# Altium footprint library PcbLib1.PcbLib: 14 footprints
Each footprint in its own frame and in the unit in brackets; x right, y up, seen from the top. Pads: shape width x height; smd on the part's side, far side on the other; paste and mask are expansions set on the pad; w line width, h text height; cw(c..) or ccw(c..) is an arc to the next point about the centre after c.
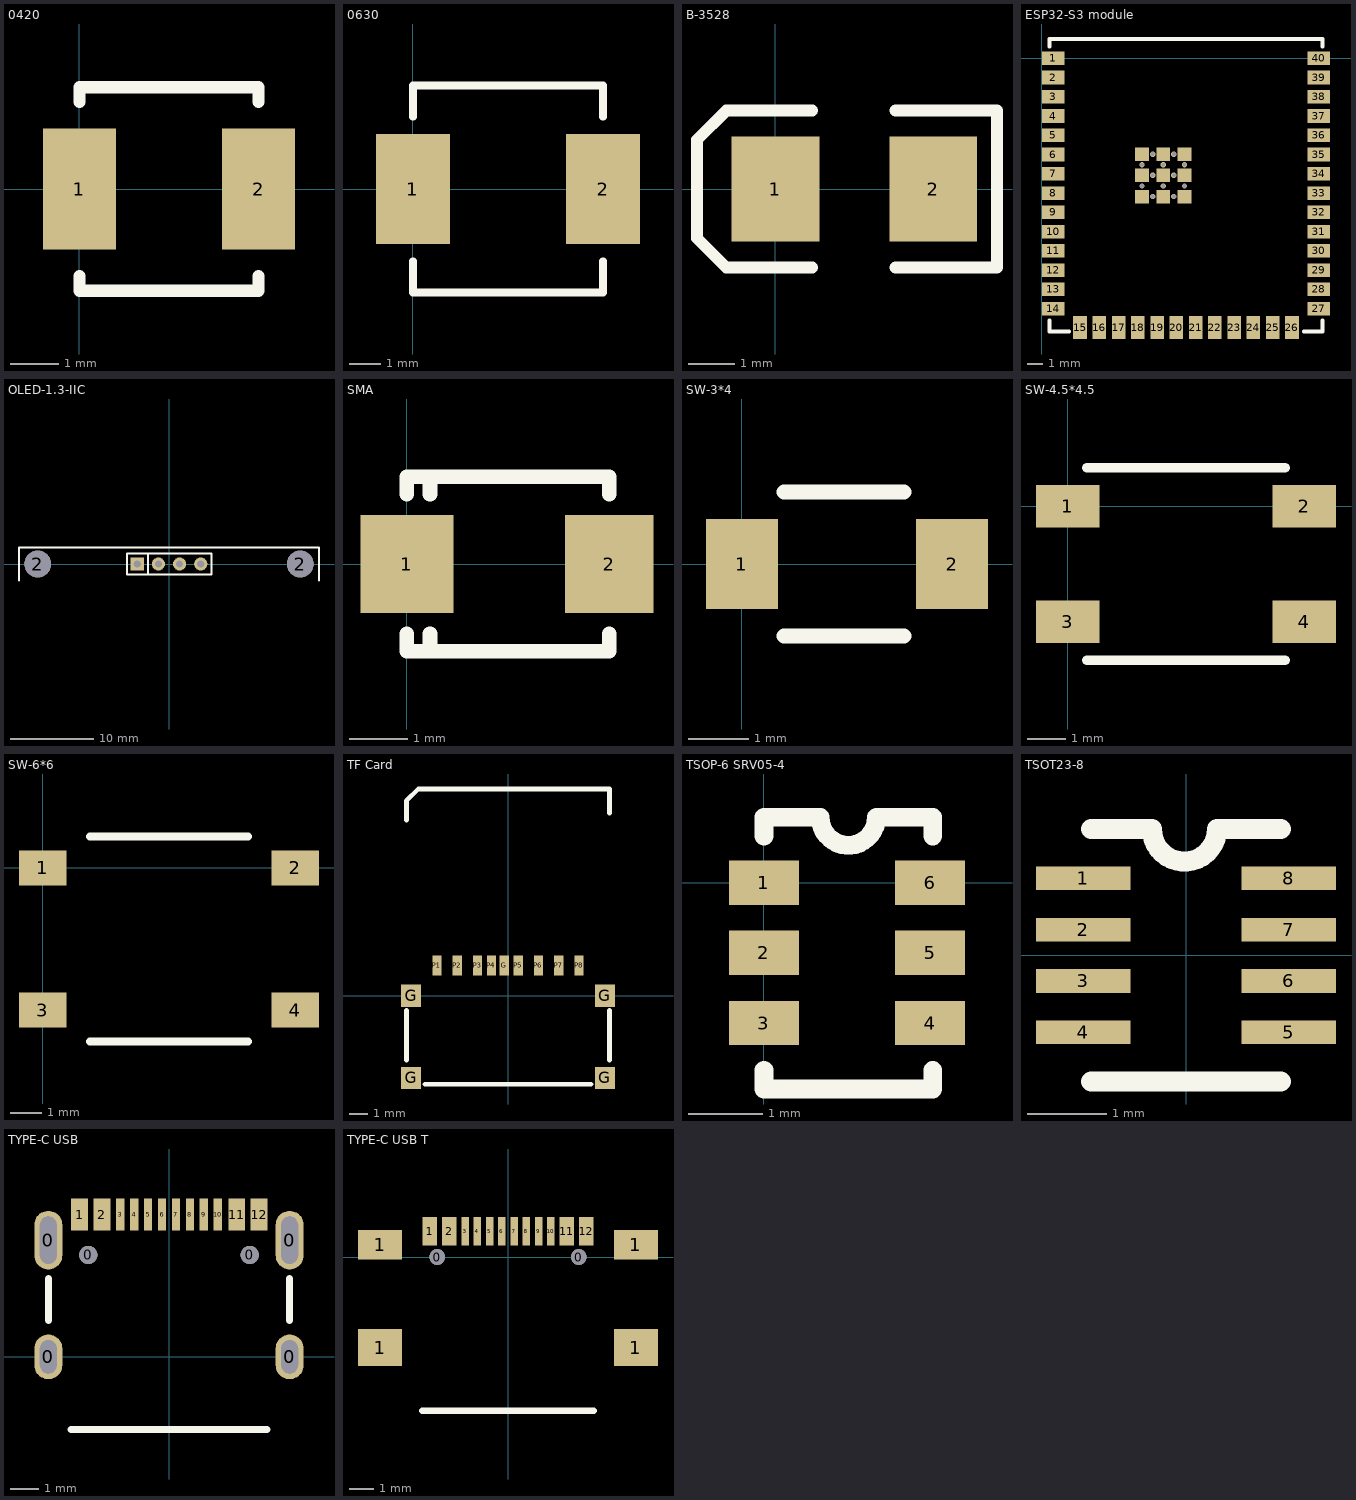
[diagram p0: the footprints below, top view; thin cyan lines are the x and y axes]

## 0420 [mm]
pads (2):
  rect 1.5x2.5 smd paste+0 mask+0.051: 1(0,0) 2(3.7,0)
Top Overlay:
  lines w0.254: 0,-1.8 0,-2.1 3.7,-2.1 3.7,-1.8 ; 0,1.8 0,2.1 3.7,2.1 3.7,1.8

## 0630 [mm]
pads (2):
  rect 2.35x3.5 smd paste+0 mask+0.051: 1(0,0) 2(6.05,0)
Top Overlay:
  lines w0.254: 0,-2.3 0,-3.3 6.05,-3.3 6.05,-2.3 ; 0,2.3 0,3.3 6.05,3.3 6.05,2.3

## B-3528 [mm]
pads (2):
  rect 1.9x2.28 smd paste+0 mask+0.051: 1(0,0) 2(3.42,0)
Top Overlay:
  lines w0.254: 0.8,-1.7 -1.067,-1.7 -1.094,-1.673 -1.7,-1.067 -1.7,1.067 -1.067,1.7 -1,1.7 0.8,1.7 ; 2.6,-1.7 4.8,-1.7 4.8,1.7 2.6,1.7

## ESP32-S3 module [mm]
pads (49):
  rect 1.5x0.9 smd paste+0 mask+0.051: 1(0.75,0) 2(0.75,-1.27) 3(0.75,-2.54) 4(0.75,-3.81) 5(0.75,-5.08) 6(0.75,-6.35) 7(0.75,-7.62) 8(0.75,-8.89) 9(0.75,-10.16) 10(0.75,-11.43) 11(0.75,-12.7) 12(0.75,-13.97) 13(0.75,-15.24) 14(0.75,-16.51) 27(18.25,-16.51) 28(18.25,-15.24) 29(18.25,-13.97) 30(18.25,-12.7) 31(18.25,-11.43) 32(18.25,-10.16) 33(18.25,-8.89) 34(18.25,-7.62) 35(18.25,-6.35) 36(18.25,-5.08) 37(18.25,-3.81) 38(18.25,-2.54) 39(18.25,-1.27) 40(18.25,0)
  rect 0.9x1.5 smd paste+0 mask+0.051: 15(2.515,-17.76) 16(3.785,-17.76) 17(5.055,-17.76) 18(6.325,-17.76) 19(7.595,-17.76) 20(8.865,-17.76) 21(10.135,-17.76) 22(11.405,-17.76) 23(12.675,-17.76) 24(13.945,-17.76) 25(15.215,-17.76) 26(16.485,-17.76)
  rect 0.9x0.9 smd paste+0 mask+0.051: ""(6.6,-9.12) ""(6.6,-7.72) ""(6.6,-6.32) ""(8,-9.12) ""(8,-7.72) ""(8,-6.32) ""(9.4,-9.12) ""(9.4,-7.72) ""(9.4,-6.32)
via 7.3,-6.32 diameter 0.35 hole 0.25
via 6.6,-7.02 diameter 0.35 hole 0.25
via 8,-7.02 diameter 0.35 hole 0.25
via 8.7,-6.32 diameter 0.35 hole 0.25
via 8.7,-7.72 diameter 0.35 hole 0.25
via 7.3,-7.72 diameter 0.35 hole 0.25
via 7.3,-9.12 diameter 0.35 hole 0.25
via 8.7,-9.12 diameter 0.35 hole 0.25
via 9.4,-7.02 diameter 0.35 hole 0.25
via 6.6,-8.42 diameter 0.35 hole 0.25
via 8,-8.42 diameter 0.35 hole 0.25
via 9.4,-8.42 diameter 0.35 hole 0.25
Top Overlay:
  lines w0.254: 0.5,-17.3 0.5,-18.01 1.778,-18.01 ; 0.5,0.762 0.5,1.27 18.5,1.27 18.5,0.762 ; 17.272,-18.01 18.5,-18.01 18.5,-17.3

## OLED-1.3-IIC [mil]
pads (6):
  round 125.98 hole 125.98: 2(-620.08,0) 2(620.08,0)
  round 62 hole 34: GND(-50,0) SCL(50,0) SDA(150,0)
  rect 62x62 hole 34: VCC(-150,0)
Top Overlay:
  lines w10: -708.66,-78.74 -708.66,78.74 708.66,78.74 708.66,-78.74 ; -99,-50 -99,50 ; -199,-50 201,-50 201,50 -199,50 -199,-50

## SMA [mm]
pads (2):
  rect 1.6x1.68 smd paste+0 mask+0.051: 1(0,0)
  rect 1.52x1.68 smd paste+0 mask+0.051: 2(3.48,0)
Top Overlay:
  lines w0.254: 0,-1.2 0,-1.5 3.48,-1.5 3.48,-1.2 ; 0,1.2 0,1.5 3.48,1.5 ; 0.4,-1.5 0.4,-1.2 ; 0.4,1.2 0.4,1.5 ; 3.48,1.2 3.48,1.491

## SW-3*4 [mm]
pads (2):
  rect 1.2x1.5 smd paste+0 mask+0.051: 1(0,0) 2(3.5,0)
Top Overlay:
  lines w0.254: 0.7,-1.2 2.7,-1.2 ; 0.7,1.2 2.7,1.2

## SW-4.5*4.5 [mm]
pads (4):
  rect 1.65x1.1 smd paste+0 mask+0.051: 1(0,0) 2(6.15,0) 3(0,-3) 4(6.15,-3)
Top Overlay:
  lines w0.254: 0.5,-4 5.65,-4 ; 0.5,1 5.65,1

## SW-6*6 [mm]
pads (4):
  rect 1.5x1.1 smd paste+0 mask+0.051: 1(0,0) 2(8,0) 3(0,-4.5) 4(8,-4.5)
Top Overlay:
  lines w0.254: 1.5,-5.5 6.5,-5.5 ; 1.5,1 6.5,1

## TF Card [mm]
pads (13):
  rect 1.1x1.2 smd paste+0 mask+0.051: G(-5.25,-4.45) G(-5.25,0) G(5.25,-4.45) G(5.25,0)
  rect 0.5x1.08 smd paste+0 mask+0.051: G(-0.2,1.64) P1(-3.85,1.64) P2(-2.75,1.64) P3(-1.65,1.64) P4(-0.9,1.64) P5(0.55,1.64) P6(1.65,1.64) P7(2.75,1.64) P8(3.85,1.64)
Top Overlay:
  lines w0.254: -5.5,-3.5 -5.5,-0.8 ; -5.5,9.5 -5.5,10.565 -4.865,11.2 -4.699,11.2 5.5,11.2 5.5,9.881 ; -4.5,-4.8 4.5,-4.8 ; 5.5,-3.5 5.5,-0.8

## TSOP-6 SRV05-4 [mm]
pads (6):
  rect 0.95x0.6 smd paste+0 mask+0.051: 1(0,0) 2(0,-0.95) 3(0,-1.9) 4(2.25,-1.9) 5(2.25,-0.95) 6(2.25,0)
Top Overlay:
  lines w0.254: 0,-2.54 0,-2.794 2.286,-2.794 2.286,-2.54 ; 0,0.635 0,0.889 0.762,0.889 ccw(c1.143,0.889) 1.524,0.889 2.286,0.889 2.286,0.635

## TSOT23-8 [mm]
pads (8):
  rect 1.2x0.3 smd paste+0 mask+0.051: 1(-1.3,0.975) 2(-1.3,0.325) 3(-1.3,-0.325) 4(-1.3,-0.975) 5(1.3,-0.975) 6(1.3,-0.325) 7(1.3,0.325) 8(1.3,0.975)
Top Overlay:
  lines w0.254: -1.2,-1.6 1.2,-1.6 ; -1.2,1.6 -0.458,1.6 ; -0.433,1.6 ccw(c-0.02,1.6) 0.393,1.6 1.2,1.6

## TYPE-C USB [mm]
pads (18):
  rrect100% 1x1.6 hole 1.2 slot 0.6 at 0 deg: 0(-4.32,0) 0(4.32,0)
  rrect100% 1x2.1 hole 1.7 slot 0.6 at 0 deg: 0(-4.32,4.18) 0(4.32,4.18)
  round 0.65 hole 0.65: 0(-2.89,3.65) 0(2.89,3.65)
  rect 0.6x1.15 smd paste+0 mask+0.051: 1(-3.2,5.095) 2(-2.4,5.095) 11(2.425,5.095) 12(3.225,5.095)
  rect 0.3x1.15 smd paste+0 mask+0.051: 3(-1.75,5.095) 4(-1.25,5.095) 5(-0.75,5.095) 6(-0.25,5.095) 7(0.25,5.095) 8(0.75,5.095) 9(1.25,5.095) 10(1.75,5.095)
Top Overlay:
  lines w0.254: -4.32,1.3 -4.32,2.8 ; -3.5,-2.6 3.5,-2.6 ; 4.32,1.3 4.32,2.8

## TYPE-C USB T [mm]
pads (18):
  round 0.65 hole 0.65: 0(-2.89,0) 0(2.89,0)
  rect 1.8x1.5 smd paste+0 mask+0.051: 1(-5.225,-3.7) 1(5.225,-3.7)
  rect 1.8x1.2 smd paste+0 mask+0.051: 1(-5.225,0.5) 1(5.225,0.5)
  rect 0.6x1.15 smd paste+0 mask+0.051: 1(-3.2,1.05) 2(-2.4,1.05) 11(2.4,1.05) 12(3.2,1.05)
  rect 0.3x1.15 smd paste+0 mask+0.051: 3(-1.75,1.05) 4(-1.25,1.05) 5(-0.75,1.05) 6(-0.25,1.05) 7(0.25,1.05) 8(0.75,1.05) 9(1.25,1.05) 10(1.75,1.05)
Top Overlay:
  lines w0.254: -3.5,-6.28 3.5,-6.28